# EAGLE library part 749600010 (library WE-LANMX)
WE-LANMX Connector Connector without assembly Characteristics M12 connector with integrated magnetics Slim design High mechanical stability Robust against dust and water Through hole reflow (THR) soldering Compliant with standard IEEE 802.3u Operating temperature: -40 °C up to +85 °C Applications Industrial applications e.g. factory automation, robotics, transportation technology, wind power plants Standards wie EtherNet/IP, Profinet, EtherCAT, Ethernet Powerlink <https://www.we-online.com/catalog/media/o324305v209%20Family_WE-LANMX_Connector_749600010.jpg> Details see: https://www.we-online.com/katalog/en/WE-LANMX_CONNECTOR Created by Ella Wu 2021-03-18 2021 (C) Würth Elektronik
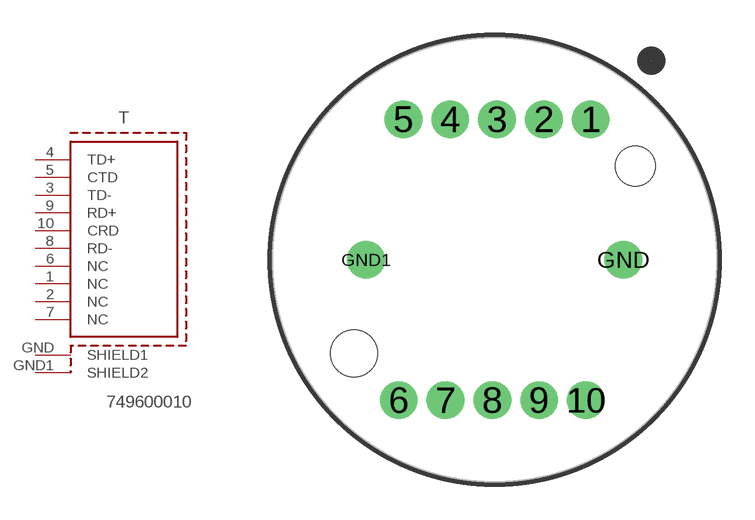
[diagram p0: symbol with the pads of 749600010; footprint 749600010]

Designator prefix T

## 749600010 (DATA-RATE: 10/100 Base-T; DATASHEET-URL: https://www.we-online.com/catalog/datasheet/749600010.pdf; L: 350uH; MOUNT: THR; ORIENTATION-TYPE: Vertical; PART-NUMBER: 749600010; POE: non-PoE; RISO: 100MOhm; USE-WITH: 749699910; VALUE: 749600010; VT: 2250V (DC))  [749600010]
1  NC  pas
2  NC  pas
3  TD-
4  TD+
5  CTD
6  NC  pas
7  NC  pas
8  RD-
9  RD+
10  CRD
GND  SHIELD1  pwr
GND1  SHIELD2  pwr

## Footprint 749600010 (pad centres in mm)
WE-LANMX Connector 10/100 Base-T, THR, 10pins
drill 1.01 pad 1.61: 1 4.1,6; 2 2.1,6; 3 0.1,6; 4 -1.9,6; 5 -3.9,6; 6 -4.1,-6; 7 -2.1,-6; 8 -0.1,-6; 9 1.9,-6; 10 3.9,-6; GND 5.5,0; GND1 -5.5,0
hole 1.7 at 6,4
hole 2 at -6,-4